# EAGLE library part MPX4250 (library pressure_sensor)
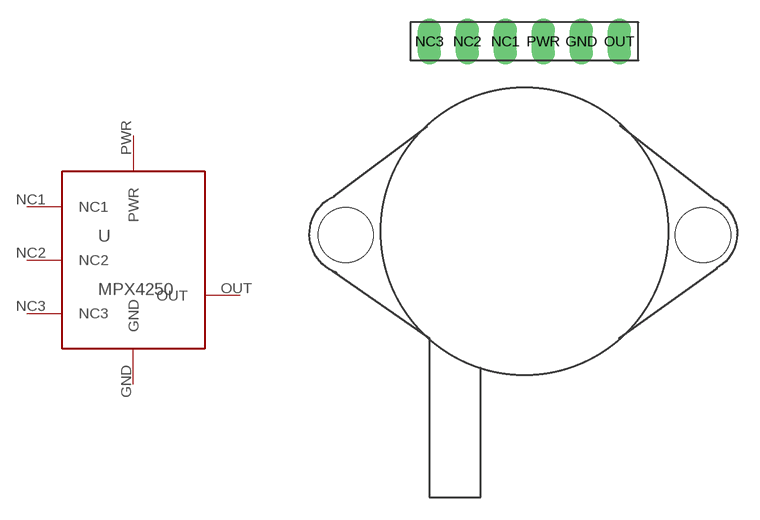
[diagram p0: symbol with the pads of MPX4250; footprint MPX4250]

Designator prefix -

## MPX4250  [MPX4250]
GND  GND  out
NC1  NC1  pwr
NC2  NC2  pwr
NC3  NC3  pwr
OUT  OUT  pwr
PWR  PWR  pwr

## Footprint MPX4250 (pad centres in mm)
drill 1.016 long: GND 3.81,0; NC1 -1.27,0; NC2 -3.81,0; NC3 -6.35,0; OUT 6.35,0; PWR 1.27,0
hole 3.683 at -11.938,-12.954
hole 3.683 at 11.938,-12.954